# EAGLE library part 06FDZ-ST(S) (library JST-con-FDZ)
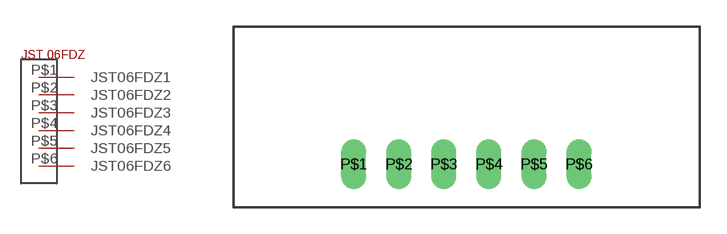
[diagram p0: symbol with the pads of 06FDZ-ST(S); footprint 06FDZ-ST(S)]

Designator prefix -

## 06FDZ-ST(S)  [06FDZ-ST(S)]
P$1  JST06FDZ1
P$2  JST06FDZ2
P$3  JST06FDZ3
P$4  JST06FDZ4
P$5  JST06FDZ5
P$6  JST06FDZ6

## Footprint 06FDZ-ST(S) (pad centres in mm)
drill 0.9 long: P$1 -6.35,0; P$2 -3.81,0; P$3 -1.27,0; P$4 1.27,0; P$5 3.81,0; P$6 6.35,0